# Altium integrated library WE-FLEXplus_rev15a.intlib: 15 symbols
Pins are listed as number, name and electrical type; pins without a type are passive.

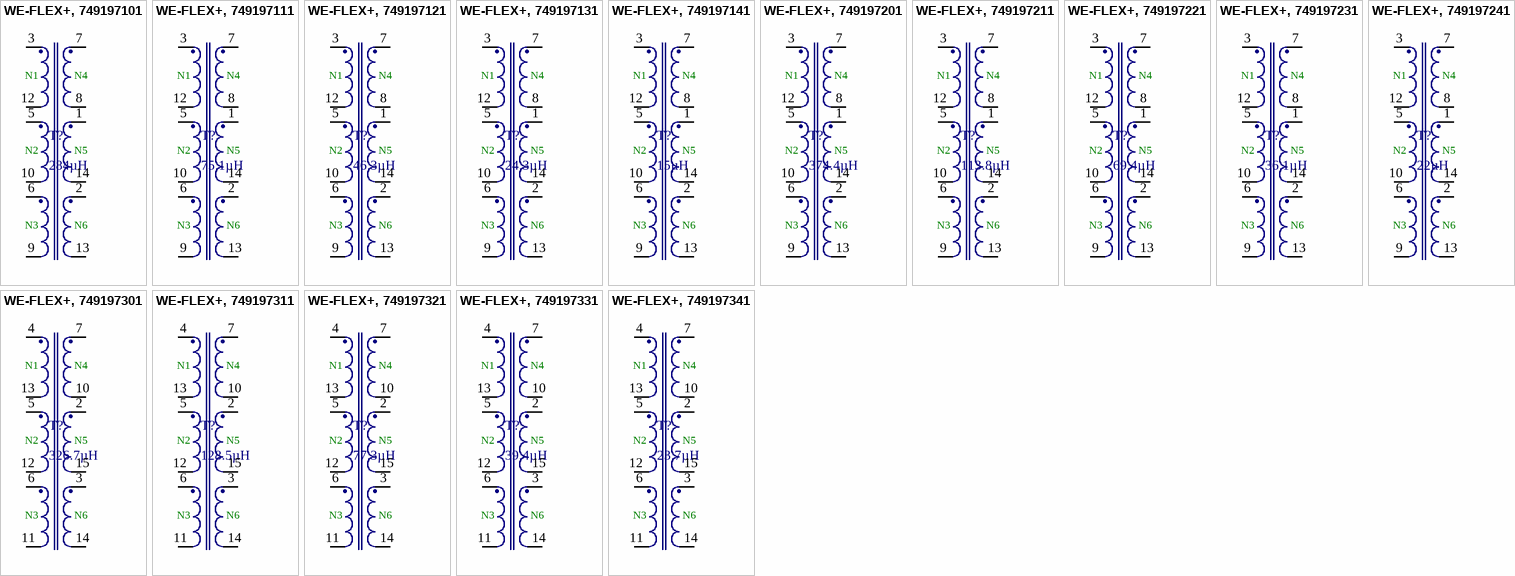
[diagram p0: symbols WE-FLEX+, 749197101 to WE-FLEX+, 749197341]

## WE-FLEX+, 749197101
designator T?, comment 284µH
Flexible Transformer for DC/DC Converter WE-FLEX+ , L=284µH; PartNo: 749197101; Manufacturer: Würth Elektronik eiSos GmbH; Lbase: 284µH; ComponentLink1Description: Manufacturer; ComponentLink1URL: http://www.we-online.de; Created by: Otto Christin; Created Date: OCT 2013; ComponentLink2Description: Datasheet; ComponentLink2URL: http://www.we-online.de/katalog/media/pdf/749197101.pdf
footprint ETD29 (THT Transformer, 14-Leads, Body 37.21 x 35.56mm)
pins: 1, 2, 3, 5, 6, 7, 8, 9, 10, 12, 13, 14
text: N1; N4; N2; N5; N3; N6

## WE-FLEX+, 749197111
designator T?, comment 75.1µH
Flexible Transformer for DC/DC Converter WE-FLEX+, L=75.1µH; PartNo: 749197111; Manufacturer: Würth Elektronik eiSos GmbH; Lbase: 75.1µH; ComponentLink1Description: Manufacturer; ComponentLink1URL: http://www.we-online.de; Created by: Otto Christin; Created Date: OCT 2013; ComponentLink2Description: Datasheet; ComponentLink2URL: http://www.we-online.de/katalog/media/pdf/749197111.pdf
footprint ETD29 (THT Transformer, 14-Leads, Body 37.21 x 35.56mm)
pins: 1, 2, 3, 5, 6, 7, 8, 9, 10, 12, 13, 14
text: N1; N4; N2; N5; N3; N6

## WE-FLEX+, 749197121
designator T?, comment 46.3µH
Flexible Transformer for DC/DC Converter WE-FLEX+, L=46.3µH; PartNo: 749197121; Manufacturer: Würth Elektronik eiSos GmbH; Lbase: 46.3µH; ComponentLink1Description: Manufacturer; ComponentLink1URL: http://www.we-online.de; Created by: Otto Christin; Created Date: OCT 2013; ComponentLink2Description: Datasheet; ComponentLink2URL: http://www.we-online.de/katalog/media/pdf/749197121.pdf
footprint ETD29 (THT Transformer, 14-Leads, Body 37.21 x 35.56mm)
pins: 1, 2, 3, 5, 6, 7, 8, 9, 10, 12, 13, 14
text: N1; N4; N2; N5; N3; N6

## WE-FLEX+, 749197131
designator T?, comment 24.3µH
Flexible Transformer for DC/DC Converter WE-FLEX+ , L=24.3µH; PartNo: 749197131; Manufacturer: Würth Elektronik eiSos GmbH; Lbase: 24.3µH; ComponentLink1Description: Manufacturer; ComponentLink1URL: http://www.we-online.de; Created by: Otto Christin; Created Date: OCT 2013; ComponentLink2Description: Datasheet; ComponentLink2URL: http://www.we-online.de/katalog/media/pdf/749197131.pdf
footprint ETD29 (THT Transformer, 14-Leads, Body 37.21 x 35.56mm)
pins: 1, 2, 3, 5, 6, 7, 8, 9, 10, 12, 13, 14
text: N1; N4; N2; N5; N3; N6

## WE-FLEX+, 749197141
designator T?, comment 15µH
Flexible Transformer for DC/DC Converter WE-FLEX+, L=15µH; PartNo: 749197141; Manufacturer: Würth Elektronik eiSos GmbH; Lbase: 15µH; ComponentLink1Description: Manufacturer; ComponentLink1URL: http://www.we-online.de; Created by: Otto Christin; Created Date: OCT 2013; ComponentLink2Description: Datasheet; ComponentLink2URL: http://www.we-online.de/katalog/media/pdf/749197141.pdf
footprint ETD29 (THT Transformer, 14-Leads, Body 37.21 x 35.56mm)
pins: 1, 2, 3, 5, 6, 7, 8, 9, 10, 12, 13, 14
text: N1; N4; N2; N5; N3; N6

## WE-FLEX+, 749197201
designator T?, comment 374.4µH
Flexible Transformer for DC/DC Converter WE-FLEX+, L=374.4µH; PartNo: 749197201; Manufacturer: Würth Elektronik eiSos GmbH; Lbase: 374.4µH; ComponentLink1Description: Manufacturer; ComponentLink1URL: http://www.we-online.de; Created by: Otto Christin; Created Date: OCT 2013; ComponentLink2Description: Datasheet; ComponentLink2URL: http://www.we-online.de/katalog/media/pdf/749197201.pdf
footprint ETD34 (THT Transformer, 14-Leads, Body 40.39 x 39.62mm)
pins: 1, 2, 3, 5, 6, 7, 8, 9, 10, 12, 13, 14
text: N1; N4; N2; N5; N3; N6

## WE-FLEX+, 749197211
designator T?, comment 113.8µH
Flexible Transformer for DC/DC Converter WE-FLEX+, L=113.8µH; PartNo: 749197211; Manufacturer: Würth Elektronik eiSos GmbH; Lbase: 113.8µH; ComponentLink1Description: Manufacturer; ComponentLink1URL: http://www.we-online.de; Created by: Otto Christin; Created Date: OCT 2013; ComponentLink2Description: Datasheet; ComponentLink2URL: http://www.we-online.de/katalog/media/pdf/749197211.pdf
footprint ETD34 (THT Transformer, 14-Leads, Body 40.39 x 39.62mm)
pins: 1, 2, 3, 5, 6, 7, 8, 9, 10, 12, 13, 14
text: N1; N4; N2; N5; N3; N6

## WE-FLEX+, 749197221
designator T?, comment 69.4µH
Flexible Transformer for DC/DC Converter WE-FLEX+, L=69.4µH; PartNo: 749197221; Manufacturer: Würth Elektronik eiSos GmbH; Lbase: 69.4µH; ComponentLink1Description: Manufacturer; ComponentLink1URL: http://www.we-online.de; Created by: Otto Christin; Created Date: OCT 2013; ComponentLink2Description: Datasheet; ComponentLink2URL: http://www.we-online.de/katalog/media/pdf/749197221.pdf
footprint ETD34 (THT Transformer, 14-Leads, Body 40.39 x 39.62mm)
pins: 1, 2, 3, 5, 6, 7, 8, 9, 10, 12, 13, 14
text: N1; N4; N2; N5; N3; N6

## WE-FLEX+, 749197231
designator T?, comment 36.1µH
Flexible Transformer for DC/DC Converter WE-FLEX+, L=36.1µH; PartNo: 749197231; Manufacturer: Würth Elektronik eiSos GmbH; Lbase: 36.1µH; ComponentLink1Description: Manufacturer; ComponentLink1URL: http://www.we-online.de; Created by: Otto Christin; Created Date: OCT 2013; ComponentLink2Description: Datasheet; ComponentLink2URL: http://www.we-online.de/katalog/media/pdf/749197231.pdf
footprint ETD34 (THT Transformer, 14-Leads, Body 40.39 x 39.62mm)
pins: 1, 2, 3, 5, 6, 7, 8, 9, 10, 12, 13, 14
text: N1; N4; N2; N5; N3; N6

## WE-FLEX+, 749197241
designator T?, comment 22µH
Flexible Transformer for DC/DC Converter WE-FLEX+, L=22µH; PartNo: 749197241; Manufacturer: Würth Elektronik eiSos GmbH; Lbase: 22µH; ComponentLink1Description: Manufacturer; ComponentLink1URL: http://www.we-online.de; Created by: Otto Christin; Created Date: OCT 2013; ComponentLink2Description: Datasheet; ComponentLink2URL: http://www.we-online.de/katalog/media/pdf/749197241.pdf
footprint ETD34 (THT Transformer, 14-Leads, Body 40.39 x 39.62mm)
pins: 1, 2, 3, 5, 6, 7, 8, 9, 10, 12, 13, 14
text: N1; N4; N2; N5; N3; N6

## WE-FLEX+, 749197301
designator T?, comment 326.7µH
Flexible Transformer for DC/DC Converter WE-FLEX+, L=326.7µH; PartNo: 749197301; Manufacturer: Würth Elektronik eiSos GmbH; Lbase: 326.7µH; ComponentLink1Description: Manufacturer; ComponentLink1URL: http://www.we-online.de; Created by: Otto Christin; Created Date: OCT 2013; ComponentLink2Description: Datasheet; ComponentLink2URL: http://www.we-online.de/katalog/media/pdf/749197301.pdf
footprint ETD39 (THT Transformer, 16-Leads, Body 45.72 x 44.45mm)
pins: 2, 3, 4, 5, 6, 7, 10, 11, 12, 13, 14, 15
text: N1; N4; N2; N5; N3; N6

## WE-FLEX+, 749197311
designator T?, comment 128.5µH
Flexible Transformer for DC/DC Converter WE-FLEX+, L=128.5µH; PartNo: 749197311; Manufacturer: Würth Elektronik eiSos GmbH; Lbase: 128.5µH; ComponentLink1Description: Manufacturer; ComponentLink1URL: http://www.we-online.de; Created by: Otto Christin; Created Date: OCT 2013; ComponentLink2Description: Datasheet; ComponentLink2URL: http://www.we-online.de/katalog/media/pdf/749197311.pdf
footprint ETD39 (THT Transformer, 16-Leads, Body 45.72 x 44.45mm)
pins: 2, 3, 4, 5, 6, 7, 10, 11, 12, 13, 14, 15
text: N1; N4; N2; N5; N3; N6

## WE-FLEX+, 749197321
designator T?, comment 77.3µH
Flexible Transformer for DC/DC Converter WE-FLEX+, L=77.3µH; PartNo: 749197321; Manufacturer: Würth Elektronik eiSos GmbH; Lbase: 77.3µH; ComponentLink1Description: Manufacturer; ComponentLink1URL: http://www.we-online.de; Created by: Otto Christin; Created Date: OCT 2013; ComponentLink2Description: Datasheet; ComponentLink2URL: http://www.we-online.de/katalog/media/pdf/749197321.pdf
footprint ETD39 (THT Transformer, 14-Leads, Body 45.72 x 44.45mm)
pins: 2, 3, 4, 5, 6, 7, 10, 11, 12, 13, 14, 15
text: N1; N4; N2; N5; N3; N6

## WE-FLEX+, 749197331
designator T?, comment 39.4µH
Flexible Transformer for DC/DC Converter WE-FLEX+, L=39.4µH; PartNo: 749197331; Manufacturer: Würth Elektronik eiSos GmbH; Lbase: 39.4µH; ComponentLink1Description: Manufacturer; ComponentLink1URL: http://www.we-online.de; Created by: Otto Christin; Created Date: OCT 2013; ComponentLink2Description: Datasheet; ComponentLink2URL: http://www.we-online.de/katalog/media/pdf/749197331.pdf
footprint ETD39 (THT Transformer, 14-Leads, Body 45.72 x 44.45mm)
pins: 2, 3, 4, 5, 6, 7, 10, 11, 12, 13, 14, 15
text: N1; N4; N2; N5; N3; N6

## WE-FLEX+, 749197341
designator T?, comment 23.7µH
Flexible Transformer for DC/DC Converter WE-FLEX+, L=23.7µH; PartNo: 749197341; Manufacturer: Würth Elektronik eiSos GmbH; Lbase: 23.7µH; ComponentLink1Description: Manufacturer; ComponentLink1URL: http://www.we-online.de; Created by: Otto Christin; Created Date: OCT 2013; ComponentLink2Description: Datasheet; ComponentLink2URL: http://www.we-online.de/katalog/media/pdf/749197341.pdf
footprint ETD39 (THT Transformer, 14-Leads, Body 45.72 x 44.45mm)
pins: 2, 3, 4, 5, 6, 7, 10, 11, 12, 13, 14, 15
text: N1; N4; N2; N5; N3; N6